# Altium schematic symbol library BC857.SchLib: 1 symbol
Pins are listed as number, name and electrical type; pins without a type are passive.

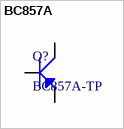
[diagram p0: symbol BC857A]

## BC857A
designator Q?, comment BC857A-TP
ID: BC857A-TP; PRICE: 0.21000; BUY_LINK: http://www.digikey.com/product-detail/en/BC857A-TP/BC857A-TPMSCT-ND/1960220; PDF: http://www.mccsemi.com/up_pdf/BC856A-BC858C(SOT-23).pdf
footprint SOT23
pins: 1 B, 2 E, 3 C